# Altium footprint library DISCRETE_T1.PcbLib: 293 footprints (part 9 of 19)
Each footprint in its own frame and in the unit in brackets; x right, y up, seen from the top. Pads: shape width x height; smd on the part's side, far side on the other; paste and mask are expansions set on the pad; w line width, h text height; cw(c..) or ccw(c..) is an arc to the next point about the centre after c.
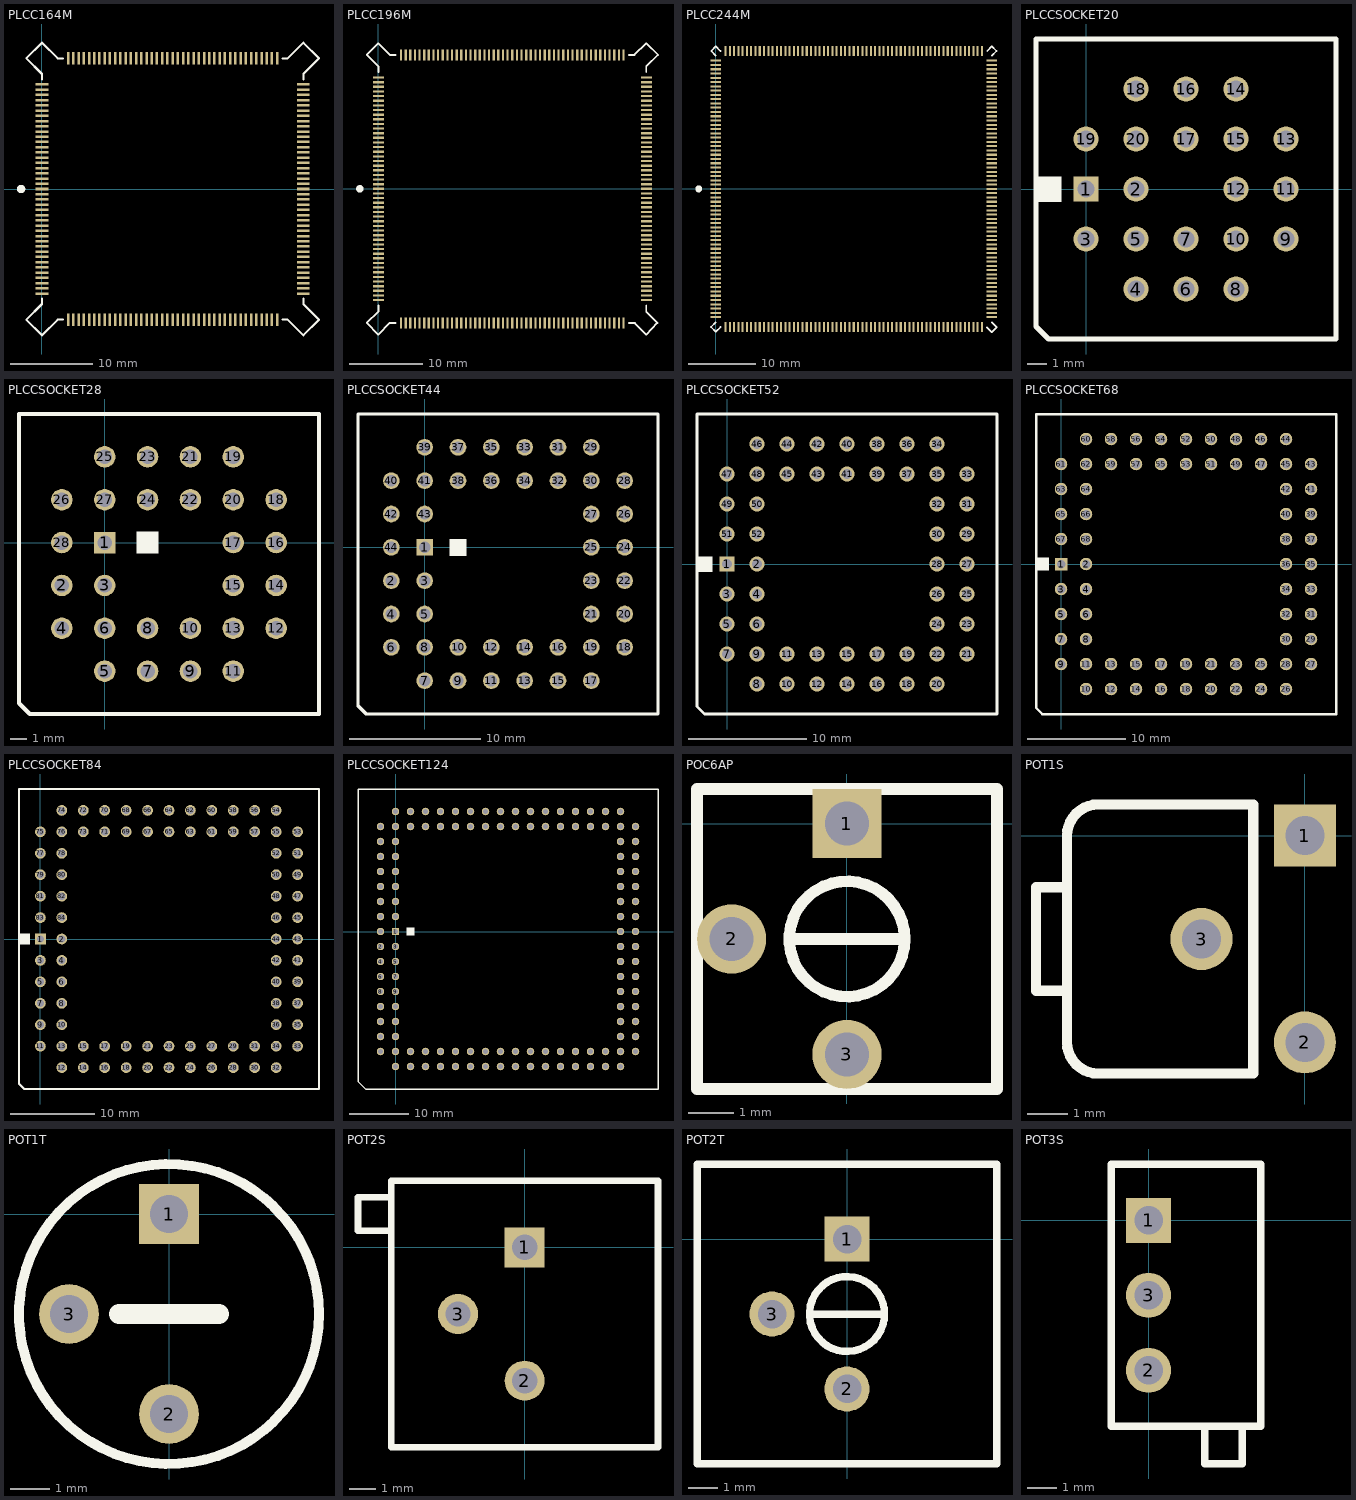
[diagram p8: the footprints below, top view; thin cyan lines are the x and y axes]

## PLCC164M [mil]
pads (165):
  rect 60x12 smd: 1(0,0) 2(0,-25) 3(0,-50) 4(0,-75) 5(0,-100) 6(0,-125) 7(0,-150) 8(0,-175) 9(0,-200) 10(0,-225) 11(0,-250) 12(0,-275) 13(0,-300) 14(0,-325) 15(0,-350) 16(0,-375) 17(0,-400) 18(0,-425) 19(0,-450) 20(0,-475) 21(0,-500) 63(1250,-500) 64(1250,-475) 65(1250,-450) 66(1250,-425) 67(1250,-400) 68(1250,-375) 69(1250,-350) 70(1250,-325) 71(1250,-300) 72(1250,-275) 73(1250,-250) 74(1250,-225) 75(1250,-200) 76(1250,-175) 77(1250,-150) 78(1250,-125) 79(1250,-100) 80(1250,-75) 81(1250,-50) 82(1250,-25) 83(1250,0) 84(1250,25) 85(1250,50) 86(1250,75) 87(1250,100) 88(1250,125) 89(1250,150) 90(1250,175) 91(1250,200) 92(1250,225) 93(1250,250) 94(1250,275) 95(1250,300) 96(1250,325) 97(1250,350) 98(1250,375) 99(1250,400) 100(1250,425) 101(1250,450) 102(1250,475) 103(1250,500) 145(0,500) 146(0,475) 147(0,450) 148(0,425) 149(0,400) 150(0,375) 151(0,350) 152(0,325) 153(0,300) 154(0,275) 155(0,250) 156(0,225) 157(0,200) 158(0,175) 159(0,150) 160(0,125) 161(0,100) 162(0,75) 163(0,50) 164(0,25) 165(0,25)
  rect 12x60 smd: 22(125,-625) 23(150,-625) 24(175,-625) 25(200,-625) 26(225,-625) 27(250,-625) 28(275,-625) 29(300,-625) 30(325,-625) 31(350,-625) 32(375,-625) 33(400,-625) 34(425,-625) 35(450,-625) 36(475,-625) 37(500,-625) 38(525,-625) 39(550,-625) 40(575,-625) 41(600,-625) 42(625,-625) 43(650,-625) 44(675,-625) 45(700,-625) 46(725,-625) 47(750,-625) 48(775,-625) 49(800,-625) 50(825,-625) 51(850,-625) 52(875,-625) 53(900,-625) 54(925,-625) 55(950,-625) 56(975,-625) 57(1000,-625) 58(1025,-625) 59(1050,-625) 60(1075,-625) 61(1100,-625) 62(1125,-625) 104(1125,625) 105(1100,625) 106(1075,625) 107(1050,625) 108(1025,625) 109(1000,625) 110(975,625) 111(950,625) 112(925,625) 113(900,625) 114(875,625) 115(850,625) 116(825,625) 117(800,625) 118(775,625) 119(750,625) 120(725,625) 121(700,625) 122(675,625) 123(650,625) 124(625,625) 125(600,625) 126(575,625) 127(550,625) 128(525,625) 129(500,625) 130(475,625) 131(450,625) 132(425,625) 133(400,625) 134(375,625) 135(350,625) 136(325,625) 137(300,625) 138(275,625) 139(250,625) 140(225,625) 141(200,625) 142(175,625) 143(150,625) 144(125,625)
Top Overlay:
  circle w20: c-100,0 r10
  lines w10: 0,-525 0,-550 -75,-625 0,-700 75,-625 100,-625 ; 0,525 0,550 -75,625 0,700 75,625 100,625 ; 1150,-625 1175,-625 1250,-700 1325,-625 1250,-550 1250,-525 ; 1150,625 1175,625 1250,700 1325,625 1250,550 1250,525

## PLCC196M [mil]
pads (196):
  rect 60x12 smd: 1(0,0) 2(0,-25) 3(0,-50) 4(0,-75) 5(0,-100) 6(0,-125) 7(0,-150) 8(0,-175) 9(0,-200) 10(0,-225) 11(0,-250) 12(0,-275) 13(0,-300) 14(0,-325) 15(0,-350) 16(0,-375) 17(0,-400) 18(0,-425) 19(0,-450) 20(0,-475) 21(0,-500) 22(0,-525) 23(0,-550) 24(0,-575) 25(0,-600) 75(1445,-600) 76(1445,-575) 77(1445,-550) 78(1445,-525) 79(1445,-500) 80(1445,-475) 81(1445,-450) 82(1445,-425) 83(1445,-400) 84(1445,-375) 85(1445,-350) 86(1445,-325) 87(1445,-300) 88(1445,-275) 89(1445,-250) 90(1445,-225) 91(1445,-200) 92(1445,-175) 93(1445,-150) 94(1445,-125) 95(1445,-100) 96(1445,-75) 97(1445,-50) 98(1445,-25) 99(1445,0) 100(1445,25) 101(1445,50) 102(1445,75) 103(1445,100) 104(1445,125) 105(1445,150) 106(1445,175) 107(1445,200) 108(1445,225) 109(1445,250) 110(1445,275) 111(1445,300) 112(1445,325) 113(1445,350) 114(1445,375) 115(1445,400) 116(1445,425) 117(1445,450) 118(1445,475) 119(1445,500) 120(1445,525) 121(1445,550) 122(1445,575) 123(1445,600) 173(0,600) 174(0,575) 175(0,550) 176(0,525) 177(0,500) 178(0,475) 179(0,450) 180(0,425) 181(0,400) 182(0,375) 183(0,350) 184(0,325) 185(0,300) 186(0,275) 187(0,250) 188(0,225) 189(0,200) 190(0,175) 191(0,150) 192(0,125) 193(0,100) 194(0,75) 195(0,50) 196(0,25)
  rect 12x60 smd: 26(122,-723) 27(147,-723) 28(172,-723) 29(197,-723) 30(222,-723) 31(247,-723) 32(272,-723) 33(297,-723) 34(322,-723) 35(347,-723) 36(372,-723) 37(397,-723) 38(422,-723) 39(447,-723) 40(472,-723) 41(497,-723) 42(522,-723) 43(547,-723) 44(572,-723) 45(597,-723) 46(622,-723) 47(647,-723) 48(672,-723) 49(697,-723) 50(722,-723) 51(747,-723) 52(772,-723) 53(797,-723) 54(822,-723) 55(847,-723) 56(872,-723) 57(897,-723) 58(922,-723) 59(947,-723) 60(972,-723) 61(997,-723) 62(1022,-723) 63(1047,-723) 64(1072,-723) 65(1097,-723) 66(1122,-723) 67(1147,-723) 68(1172,-723) 69(1197,-723) 70(1222,-723) 71(1247,-723) 72(1272,-723) 73(1297,-723) 74(1322,-723) 124(1322,722) 125(1297,722) 126(1272,722) 127(1247,722) 128(1222,722) 129(1197,722) 130(1172,722) 131(1147,722) 132(1122,722) 133(1097,722) 134(1072,722) 135(1047,722) 136(1022,722) 137(997,722) 138(972,722) 139(947,722) 140(922,722) 141(897,722) 142(872,722) 143(847,722) 144(822,722) 145(797,722) 146(772,722) 147(747,722) 148(722,722) 149(697,722) 150(672,722) 151(647,722) 152(622,722) 153(597,722) 154(572,722) 155(547,722) 156(522,722) 157(497,722) 158(472,722) 159(447,722) 160(422,722) 161(397,722) 162(372,722) 163(347,722) 164(322,722) 165(297,722) 166(272,722) 167(247,722) 168(222,722) 169(197,722) 170(172,722) 171(147,722) 172(122,722)
Top Overlay:
  circle w20: c-100,0 r10
  lines w10: 0,-630 0,-663 -63,-723 0,-786 62,-723 92,-723 ; 0,630 0,660 -62,722 0,784 62,722 92,722 ; 1352,-724 1383,-724 1445,-787 1505,-723 1445,-663 1445,-630 ; 1352,722 1381,722 1445,785 1508,722 1445,660 1445,629

## PLCC244M [mil]
pads (244):
  rect 60x12 smd: 1(0,0) 2(0,-25) 3(0,-50) 4(0,-75) 5(0,-100) 6(0,-125) 7(0,-150) 8(0,-175) 9(0,-200) 10(0,-225) 11(0,-250) 12(0,-275) 13(0,-300) 14(0,-325) 15(0,-350) 16(0,-375) 17(0,-400) 18(0,-425) 19(0,-450) 20(0,-475) 21(0,-500) 22(0,-525) 23(0,-550) 24(0,-575) 25(0,-600) 26(0,-625) 27(0,-650) 28(0,-675) 29(0,-700) 30(0,-725) 31(0,-750) 93(1615,-750) 94(1615,-725) 95(1615,-700) 96(1615,-675) 97(1615,-650) 98(1615,-625) 99(1615,-600) 100(1615,-575) 101(1615,-550) 102(1615,-525) 103(1615,-500) 104(1615,-475) 105(1615,-450) 106(1615,-425) 107(1615,-400) 108(1615,-375) 109(1615,-350) 110(1615,-325) 111(1615,-300) 112(1615,-275) 113(1615,-250) 114(1615,-225) 115(1615,-200) 116(1615,-175) 117(1615,-150) 118(1615,-125) 119(1615,-100) 120(1615,-75) 121(1615,-50) 122(1615,-25) 123(1615,0) 124(1615,25) 125(1615,50) 126(1615,75) 127(1615,100) 128(1615,125) 129(1615,150) 130(1615,175) 131(1615,200) 132(1615,225) 133(1615,250) 134(1615,275) 135(1615,300) 136(1615,325) 137(1615,350) 138(1615,375) 139(1615,400) 140(1615,425) 141(1615,450) 142(1615,475) 143(1615,500) 144(1615,525) 145(1615,550) 146(1615,575) 147(1615,600) 148(1615,625) 149(1615,650) 150(1615,675) 151(1615,700) 152(1615,725) 153(1615,750) 215(0,750) 216(0,725) 217(0,700) 218(0,675) 219(0,650) 220(0,625) 221(0,600) 222(0,575) 223(0,550) 224(0,525) 225(0,500) 226(0,475) 227(0,450) 228(0,425) 229(0,400) 230(0,375) 231(0,350) 232(0,325) 233(0,300) 234(0,275) 235(0,250) 236(0,225) 237(0,200) 238(0,175) 239(0,150) 240(0,125) 241(0,100) 242(0,75) 243(0,50) 244(0,25)
  rect 12x60 smd: 32(57,-808) 33(82,-808) 34(107,-808) 35(132,-808) 36(157,-808) 37(182,-808) 38(207,-808) 39(232,-808) 40(257,-808) 41(282,-808) 42(307,-808) 43(332,-808) 44(357,-808) 45(382,-808) 46(407,-808) 47(432,-808) 48(457,-808) 49(482,-808) 50(507,-808) 51(532,-808) 52(557,-808) 53(582,-808) 54(607,-808) 55(632,-808) 56(657,-808) 57(682,-808) 58(707,-808) 59(732,-808) 60(757,-808) 61(782,-808) 62(807,-808) 63(832,-808) 64(857,-808) 65(882,-808) 66(907,-808) 67(932,-808) 68(957,-808) 69(982,-808) 70(1007,-808) 71(1032,-808) 72(1057,-808) 73(1082,-808) 74(1107,-808) 75(1132,-808) 76(1157,-808) 77(1182,-808) 78(1207,-808) 79(1232,-808) 80(1257,-808) 81(1282,-808) 82(1307,-808) 83(1332,-808) 84(1357,-808) 85(1382,-808) 86(1407,-808) 87(1432,-808) 88(1457,-808) 89(1482,-808) 90(1507,-808) 91(1532,-808) 92(1557,-808) 154(1557,807) 155(1532,807) 156(1507,807) 157(1482,807) 158(1457,807) 159(1432,807) 160(1407,807) 161(1382,807) 162(1357,807) 163(1332,807) 164(1307,807) 165(1282,807) 166(1257,807) 167(1232,807) 168(1207,807) 169(1182,807) 170(1157,807) 171(1132,807) 172(1107,807) 173(1082,807) 174(1057,807) 175(1032,807) 176(1007,807) 177(982,807) 178(957,807) 179(932,807) 180(907,807) 181(882,807) 182(857,807) 183(832,807) 184(807,807) 185(782,807) 186(757,807) 187(732,807) 188(707,807) 189(682,807) 190(657,807) 191(632,807) 192(607,807) 193(582,807) 194(557,807) 195(532,807) 196(507,807) 197(482,807) 198(457,807) 199(432,807) 200(407,807) 201(382,807) 202(357,807) 203(332,807) 204(307,807) 205(282,807) 206(257,807) 207(232,807) 208(207,807) 209(182,807) 210(157,807) 211(132,807) 212(107,807) 213(82,807) 214(57,807)
Top Overlay:
  circle w20: c-100,0 r10
  lines w10: 0,-780 -28,-808 0,-836 28,-808 ; 0,780 -27,807 0,834 27,807 ; 1586,-809 1615,-838 1644,-809 1615,-780 ; 1588,807 1615,834 1642,807 1615,780

## PLCCSOCKET20 [mil]
pads (20):
  rect 50x50 hole 34: 1(0,0)
  round 50 hole 34: 2(100,0) 3(0,-100) 4(100,-200) 5(100,-100) 6(200,-200) 7(200,-100) 8(300,-200) 9(400,-100) 10(300,-100) 11(400,0) 12(300,0) 13(400,100) 14(300,200) 15(300,100) 16(200,200) 17(200,100) 18(100,200) 19(0,100) 20(100,100)
Top Overlay:
  region: -100,-25 -50,-25 -50,25 -100,25
  lines w10: -100,-275 -100,300 500,300 500,-300 -75,-300 -100,-275

## PLCCSOCKET28 [mil]
pads (28):
  rect 50x50 hole 34: 1(0,0)
  round 50 hole 34: 2(-100,-100) 3(0,-100) 4(-100,-200) 5(0,-300) 6(0,-200) 7(100,-300) 8(100,-200) 9(200,-300) 10(200,-200) 11(300,-300) 12(400,-200) 13(300,-200) 14(400,-100) 15(300,-100) 16(400,0) 17(300,0) 18(400,100) 19(300,200) 20(300,100) 21(200,200) 22(200,100) 23(100,200) 24(100,100) 25(0,200) 26(-100,100) 27(0,100) 28(-100,0)
Top Overlay:
  region: 75,-25 125,-25 125,25 75,25
  lines w10: -200,-375 -200,300 500,300 500,-400 -175,-400 -200,-375

## PLCCSOCKET44 [mil]
pads (44):
  rect 50x50 hole 34: 1(0,0)
  round 50 hole 34: 2(-100,-100) 3(0,-100) 4(-100,-200) 5(0,-200) 6(-100,-300) 7(0,-400) 8(0,-300) 9(100,-400) 10(100,-300) 11(200,-400) 12(200,-300) 13(300,-400) 14(300,-300) 15(400,-400) 16(400,-300) 17(500,-400) 18(600,-300) 19(500,-300) 20(600,-200) 21(500,-200) 22(600,-100) 23(500,-100) 24(600,0) 25(500,0) 26(600,100) 27(500,100) 28(600,200) 29(500,300) 30(500,200) 31(400,300) 32(400,200) 33(300,300) 34(300,200) 35(200,300) 36(200,200) 37(100,300) 38(100,200) 39(0,300) 40(-100,200) 41(0,200) 42(-100,100) 43(0,100) 44(-100,0)
Top Overlay:
  region: 75,-25 125,-25 125,25 75,25
  lines w10: -200,-475 -175,-500 700,-500 700,400 -200,400 -200,-475

## PLCCSOCKET52 [mil]
pads (52):
  rect 50x50 hole 34: 1(0,0)
  round 50 hole 34: 2(100,0) 3(0,-100) 4(100,-100) 5(0,-200) 6(100,-200) 7(0,-300) 8(100,-400) 9(100,-300) 10(200,-400) 11(200,-300) 12(300,-400) 13(300,-300) 14(400,-400) 15(400,-300) 16(500,-400) 17(500,-300) 18(600,-400) 19(600,-300) 20(700,-400) 21(800,-300) 22(700,-300) 23(800,-200) 24(700,-200) 25(800,-100) 26(700,-100) 27(800,0) 28(700,0) 29(800,100) 30(700,100) 31(800,200) 32(700,200) 33(800,300) 34(700,400) 35(700,300) 36(600,400) 37(600,300) 38(500,400) 39(500,300) 40(400,400) 41(400,300) 42(300,400) 43(300,300) 44(200,400) 45(200,300) 46(100,400) 47(0,300) 48(100,300) 49(0,200) 50(100,200) 51(0,100) 52(100,100)
Top Overlay:
  region: -100,-25 -50,-25 -50,25 -100,25
  lines w10: -100,-475 -100,500 900,500 900,-500 -75,-500 -100,-475

## PLCCSOCKET68 [mil]
pads (68):
  rect 50x50 hole 34: 1(0,0)
  round 50 hole 34: 2(100,0) 3(0,-100) 4(100,-100) 5(0,-200) 6(100,-200) 7(0,-300) 8(100,-300) 9(0,-400) 10(100,-500) 11(100,-400) 12(200,-500) 13(200,-400) 14(300,-500) 15(300,-400) 16(400,-500) 17(400,-400) 18(500,-500) 19(500,-400) 20(600,-500) 21(600,-400) 22(700,-500) 23(700,-400) 24(800,-500) 25(800,-400) 26(900,-500) 27(1000,-400) 28(900,-400) 29(1000,-300) 30(900,-300) 31(1000,-200) 32(900,-200) 33(1000,-100) 34(900,-100) 35(1000,0) 36(900,0) 37(1000,100) 38(900,100) 39(1000,200) 40(900,200) 41(1000,300) 42(900,300) 43(1000,400) 44(900,500) 45(900,400) 46(800,500) 47(800,400) 48(700,500) 49(700,400) 50(600,500) 51(600,400) 52(500,500) 53(500,400) 54(400,500) 55(400,400) 56(300,500) 57(300,400) 58(200,500) 59(200,400) 60(100,500) 61(0,400) 62(100,400) 63(0,300) 64(100,300) 65(0,200) 66(100,200) 67(0,100) 68(100,100)
Top Overlay:
  region: -100,-25 -50,-25 -50,25 -100,25
  lines w10: -100,-575 -100,600 1100,600 1100,-600 -75,-600 -100,-575

## PLCCSOCKET84 [mil]
pads (84):
  rect 50x50 hole 34: 1(0,0)
  round 50 hole 34: 2(100,0) 3(0,-100) 4(100,-100) 5(0,-200) 6(100,-200) 7(0,-300) 8(100,-300) 9(0,-400) 10(100,-400) 11(0,-500) 12(100,-600) 13(100,-500) 14(200,-600) 15(200,-500) 16(300,-600) 17(300,-500) 18(400,-600) 19(400,-500) 20(500,-600) 21(500,-500) 22(600,-600) 23(600,-500) 24(700,-600) 25(700,-500) 26(800,-600) 27(800,-500) 28(900,-600) 29(900,-500) 30(1000,-600) 31(1000,-500) 32(1100,-600) 33(1200,-500) 34(1100,-500) 35(1200,-400) 36(1100,-400) 37(1200,-300) 38(1100,-300) 39(1200,-200) 40(1100,-200) 41(1200,-100) 42(1100,-100) 43(1200,0) 44(1100,0) 45(1200,100) 46(1100,100) 47(1200,200) 48(1100,200) 49(1200,300) 50(1100,300) 51(1200,400) 52(1100,400) 53(1200,500) 54(1100,600) 55(1100,500) 56(1000,600) 57(1000,500) 58(900,600) 59(900,500) 60(800,600) 61(800,500) 62(700,600) 63(700,500) 64(600,600) 65(600,500) 66(500,600) 67(500,500) 68(400,600) 69(400,500) 70(300,600) 71(300,500) 72(200,600) 73(200,500) 74(100,600) 75(0,500) 76(100,500) 77(0,400) 78(100,400) 79(0,300) 80(100,300) 81(0,200) 82(100,200) 83(0,100) 84(100,100)
Top Overlay:
  region: -100,-25 -50,-25 -50,25 -100,25
  lines w10: -100,-675 -100,700 1300,700 1300,-700 -75,-700 -100,-675

## PLCCSOCKET124 [mil]
pads (124):
  rect 50x50 hole 34: 1(0,0)
  round 50 hole 34: 2(-100,-100) 3(0,-100) 4(-100,-200) 5(0,-200) 6(-100,-300) 7(0,-300) 8(-100,-400) 9(0,-400) 10(-100,-500) 11(0,-500) 12(-100,-600) 13(0,-600) 14(-100,-700) 15(0,-700) 16(-100,-800) 17(0,-900) 18(0,-800) 19(100,-900) 20(100,-800) 21(200,-900) 22(200,-800) 23(300,-900) 24(300,-800) 25(400,-900) 26(400,-800) 27(500,-900) 28(500,-800) 29(600,-900) 30(600,-800) 31(700,-900) 32(700,-800) 33(800,-900) 34(800,-800) 35(900,-900) 36(900,-800) 37(1000,-900) 38(1000,-800) 39(1100,-900) 40(1100,-800) 41(1200,-900) 42(1200,-800) 43(1300,-900) 44(1300,-800) 45(1400,-900) 46(1400,-800) 47(1500,-900) 48(1600,-800) 49(1500,-800) 50(1600,-700) 51(1500,-700) 52(1600,-600) 53(1500,-600) 54(1600,-500) 55(1500,-500) 56(1600,-400) 57(1500,-400) 58(1600,-300) 59(1500,-300) 60(1600,-200) 61(1500,-200) 62(1600,-100) 63(1500,-100) 64(1600,0) 65(1500,0) 66(1600,100) 67(1500,100) 68(1600,200) 69(1500,200) 70(1600,300) 71(1500,300) 72(1600,400) 73(1500,400) 74(1600,500) 75(1500,500) 76(1600,600) 77(1500,600) 78(1600,700) 79(1500,800) 80(1500,700) 81(1400,800) 82(1400,700) 83(1300,800) 84(1300,700) 85(1200,800) 86(1200,700) 87(1100,800) 88(1100,700) 89(1000,800) 90(1000,700) 91(900,800) 92(900,700) 93(800,800) 94(800,700) 95(700,800) 96(700,700) 97(600,800) 98(600,700) 99(500,800) 100(500,700) 101(400,800) 102(400,700) 103(300,800) 104(300,700) 105(200,800) 106(200,700) 107(100,800) 108(100,700) 109(0,800) 110(-100,700) 111(0,700) 112(-100,600) 113(0,600) 114(-100,500) 115(0,500) 116(-100,400) 117(0,400) 118(-100,300) 119(0,300) 120(-100,200) 121(0,200) 122(-100,100) 123(0,100) 124(-100,0)
Top Overlay:
  region: 75,-25 125,-25 125,25 75,25
  lines w10: -250,-1000 -250,950 1750,950 1750,-1050 -200,-1050 -250,-1000

## POC6AP [mil]
pads (3):
  rect 60x60 hole 38: 1(0,0)
  round 60 hole 38: 2(-100,-100) 3(0,-200)
Top Overlay:
  circle w10: c0,-100 r50
  lines w10: -50,-100 50,-100 ; -130,-230 130,-230 130,30 -130,30 -130,-230

## POT1S [mil]
pads (3):
  rect 60x60 hole 38: 1(0,0)
  round 60 hole 38: 2(0,-200) 3(-100,-100)
Top Overlay:
  lines w10: -230,-150 -230,-50 ; -230,-150 -260,-150 -260,-50 -230,-50 ; -230,-150 -230,-200 ccw(c-200,-200) -200,-230 -50,-230 -50,30 -200,30 ccw(c-200,0) -230,0 -230,-50

## POT1T [mil]
pads (3):
  rect 60x60 hole 38: 1(0,0)
  round 60 hole 38: 2(0,-200) 3(-100,-100)
Top Overlay:
  circle w10: c0,-100 r150
  lines w20: -50,-100 50,-100

## POT2S [mil]
pads (3):
  rect 60x60 hole 38: 1(0,0)
  round 60 hole 38: 2(0,-200) 3(-100,-100)
Top Overlay:
  lines w10: -200,25 -250,25 -250,75 -200,75 ; -200,-300 -200,100 200,100 200,-300 -200,-300

## POT2T [mil]
pads (3):
  rect 60x60 hole 38: 1(0,0)
  round 60 hole 38: 2(0,-200) 3(-100,-100)
Top Overlay:
  circle w10: c0,-100 r50
  lines w10: -50,-100 50,-100 ; -200,-300 200,-300 200,100 -200,100 -200,-300

## POT3S [mil]
pads (3):
  rect 60x60 hole 38: 1(0,0)
  round 60 hole 38: 2(0,-200) 3(0,-100)
Top Overlay:
  lines w10: 75,-275 75,-325 125,-325 125,-275 ; -50,-275 -50,75 150,75 150,-275 -50,-275